# EAGLE library part AD5204 (library AD5204)
AD5204 - 4-Channel Digital Potentiometer
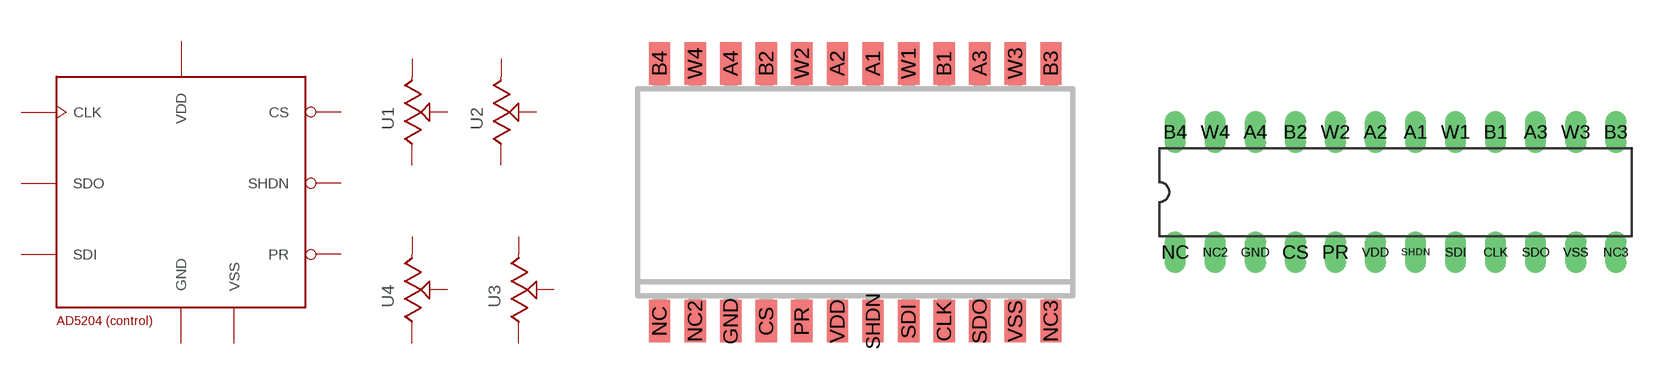
[diagram p0: symbol with the pads of SOL-24; footprints SOL-24, DIL24-3]

Designator prefix -; gates 1=POT_US- 2=POT_US- 3=POT_US- 4=POT_US- CONTROL=AD5402-CTL

## AD5204R  [SOL-24]
A1  1:A  pas
A2  2:A  pas
A3  3:A  pas
A4  4:A  pas
B1  1:B  pas
B2  2:B  pas
B3  3:B  pas
B4  4:B  pas
CLK  CONTROL:CLK  in
CS  CONTROL:CS  in
GND  CONTROL:GND  pwr
PR  CONTROL:PR  in
SDI  CONTROL:SDI  in
SDO  CONTROL:SDO  out
SHDN  CONTROL:SHDN  in
VDD  CONTROL:VDD  pwr
VSS  CONTROL:VSS  pwr
W1  1:W  pas
W2  2:W  pas
W3  3:W  pas
W4  4:W  pas

## AD5204N  [DIL24-3]
Pads as for SOL-24

## AD5204RU  [TSSOP24]
Pads as for SOL-24

## Footprint SOL-24 (pad centres in mm)
SMALL OUTLINE INTEGRATED CIRCUIT wide body 7.5 mm/JEDEC MO-119AA
smd 0.762 x 1.524: A1 0.635,4.6; A2 -0.635,4.6; A3 4.445,4.6; A4 -4.445,4.6; B1 3.175,4.6; B2 -3.175,4.6; B3 6.985,4.6; B4 -6.985,4.6; CLK 3.175,-4.6; CS -3.175,-4.6; GND -4.445,-4.6; NC -6.985,-4.6; NC2 -5.715,-4.6; NC3 6.985,-4.6; PR -1.905,-4.6; SDI 1.905,-4.6; SDO 4.445,-4.6; SHDN 0.635,-4.6; VDD -0.635,-4.6; VSS 5.715,-4.6; W1 1.905,4.6; W2 -1.905,4.6; W3 5.715,4.6; W4 -5.715,4.6

## Footprint DIL24-3 (pad centres in mm)
Dual In Line Package 0.3 inch
drill 0.813 long: A1 1.27,3.81; A2 -1.27,3.81; A3 8.89,3.81; A4 -8.89,3.81; B1 6.35,3.81; B2 -6.35,3.81; B3 13.97,3.81; B4 -13.97,3.81; CLK 6.35,-3.81; CS -6.35,-3.81; GND -8.89,-3.81; NC -13.97,-3.81; NC2 -11.43,-3.81; NC3 13.97,-3.81; PR -3.81,-3.81; SDI 3.81,-3.81; SDO 8.89,-3.81; SHDN 1.27,-3.81; VDD -1.27,-3.81; VSS 11.43,-3.81; W1 3.81,3.81; W2 -3.81,3.81; W3 11.43,3.81; W4 -11.43,3.81

## Footprint TSSOP24 (pad centres in mm)
Thin Shrink Small Outline Plastic 24 MAX3223-MAX3243.pdf
smd 0.305 x 0.991: A1 0.325,2.918; A2 -0.325,2.918; A3 2.275,2.918; A4 -2.275,2.918; B1 1.625,2.918; B2 -1.625,2.918; B3 3.575,2.918; B4 -3.575,2.918; CLK 1.625,-2.918; CS -1.625,-2.918; GND -2.275,-2.918; NC -3.575,-2.918; NC1 -2.925,-2.918; NC3 3.575,-2.918; PR -0.975,-2.918; SDI 0.975,-2.918; SDO 2.275,-2.918; SHDN 0.325,-2.918; VDD -0.325,-2.918; VSS 2.925,-2.918; W1 0.975,2.918; W2 -0.975,2.918; W3 2.925,2.918; W4 -2.925,2.918